# Altium schematic symbol library FT232R.SchLib: 2 symbols
Pins are listed as number, name and electrical type; pins without a type are passive.

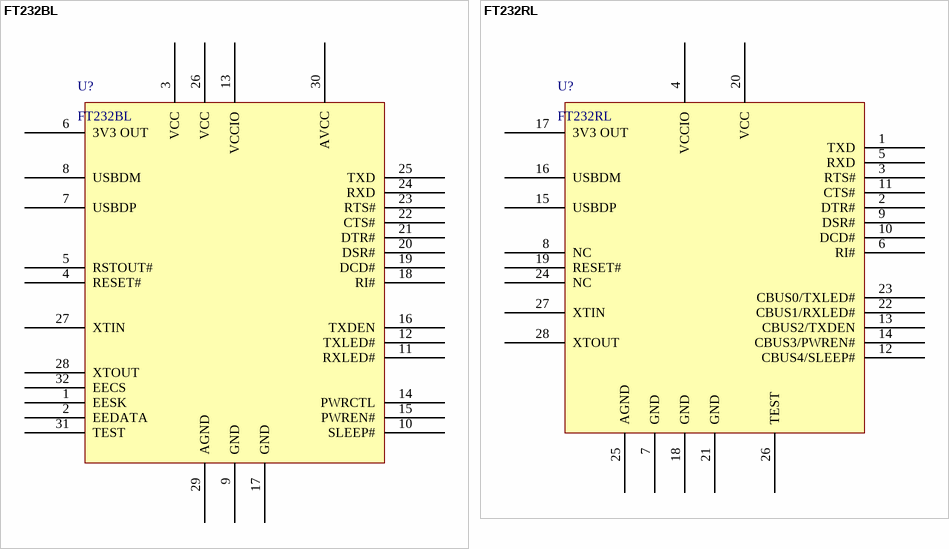
[diagram p0: symbols FT232BL to FT232RL]

## FT232BL
designator U?
pins: 1 EESK, 2 EEDATA, 3 VCC, 4 RESET#, 5 RSTOUT#, 6 3V3 OUT, 7 USBDP, 8 USBDM, 9 GND, 10 SLEEP#, 11 RXLED#, 12 TXLED#, 13 VCCIO, 14 PWRCTL, 15 PWREN#, 16 TXDEN, 17 GND, 18 RI#, 19 DCD#, 20 DSR#, 21 DTR#, 22 CTS#, 23 RTS#, 24 RXD, 25 TXD, 26 VCC, 27 XTIN, 28 XTOUT, 29 AGND, 30 AVCC, 31 TEST, 32 EECS

## FT232RL
designator U?
pins: 1 TXD, 2 DTR#, 3 RTS#, 4 VCCIO, 5 RXD, 6 RI#, 7 GND, 8 NC, 9 DSR#, 10 DCD#, 11 CTS#, 12 CBUS4/SLEEP#, 13 CBUS2/TXDEN, 14 CBUS3/PWREN#, 15 USBDP, 16 USBDM, 17 3V3 OUT, 18 GND, 19 RESET#, 20 VCC, 21 GND, 22 CBUS1/RXLED#, 23 CBUS0/TXLED#, 24 NC, 25 AGND, 26 TEST, 27 XTIN, 28 XTOUT